# Altium footprint library CAPS.PcbLib: 166 footprints (part 8 of 11)
Each footprint in its own frame and in the unit in brackets; x right, y up, seen from the top. Pads: shape width x height; smd on the part's side, far side on the other; paste and mask are expansions set on the pad; w line width, h text height; cw(c..) or ccw(c..) is an arc to the next point about the centre after c.
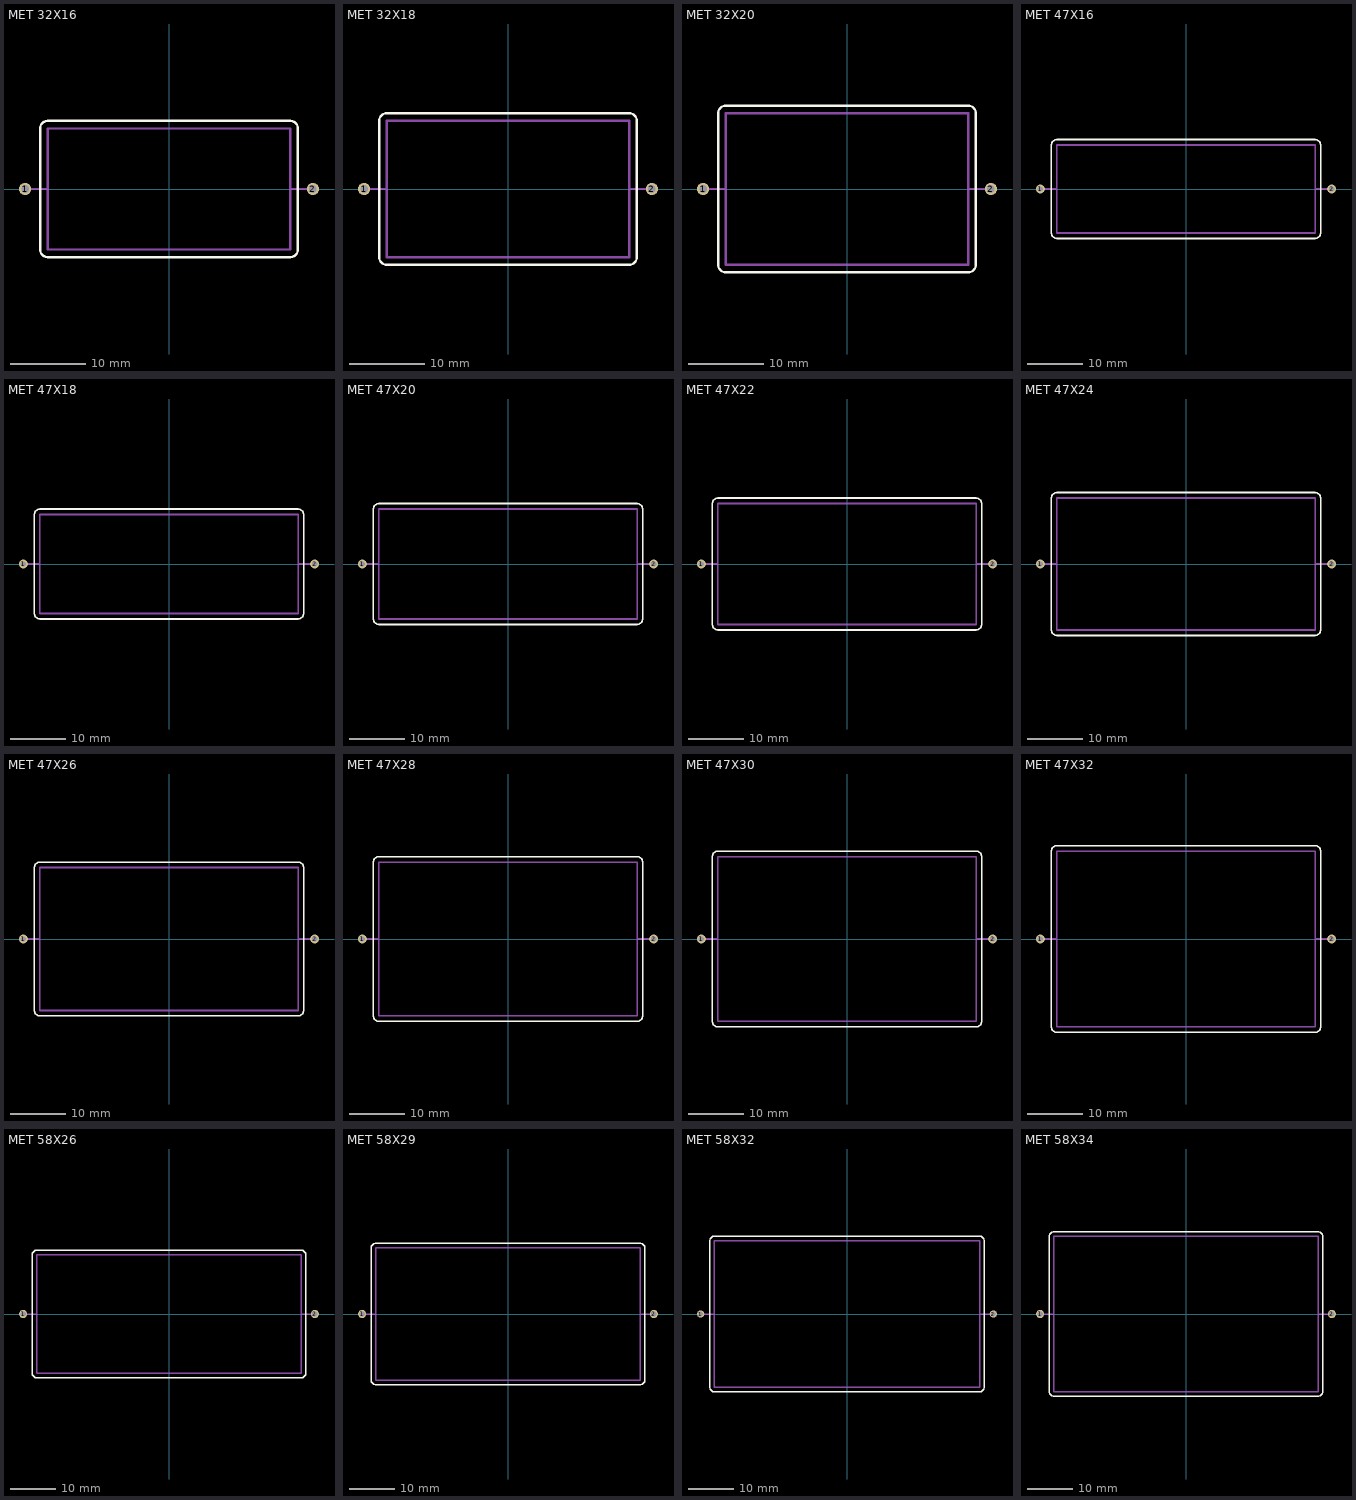
[diagram p7: the footprints below, top view; thin cyan lines are the x and y axes]

## MET 32X16 [mm]
pads (2):
  round 1.6 hole 1: 1(-19,0) 2(19,0)
Top Overlay:
  lines w0.3: -17,-8 ccw(c-16,-8) -16,-9 16,-9 ccw(c16,-8) 17,-8 17,8 ccw(c16,8) 16,9 -16,9 ccw(c-16,8) -17,8 -17,-8
Mechanical 1:
  lines w0.3: -19,0 -16,0 ; 16,0 19,0 ; -16,-8 -16,8 16,8 16,-8 -16,-8

## MET 32X18 [mm]
pads (2):
  round 1.6 hole 1: 1(-19,0) 2(19,0)
Top Overlay:
  lines w0.3: -17,-9 ccw(c-16,-9) -16,-10 16,-10 ccw(c16,-9) 17,-9 17,9 ccw(c16,9) 16,10 -16,10 ccw(c-16,9) -17,9 -17,-9
Mechanical 1:
  lines w0.3: -19,0 -16,0 ; 16,0 19,0 ; -16,-9 -16,9 16,9 16,-9 -16,-9

## MET 32X20 [mm]
pads (2):
  round 1.6 hole 1: 1(-19,0) 2(19,0)
Top Overlay:
  lines w0.3: -17,-10 ccw(c-16,-10) -16,-11 16,-11 ccw(c16,-10) 17,-10 17,10 ccw(c16,10) 16,11 -16,11 ccw(c-16,10) -17,10 -17,-10
Mechanical 1:
  lines w0.3: -19,0 -16,0 ; 16,0 19,0 ; -16,-10 16,-10 16,10 -16,10 -16,-10

## MET 47X16 [mm]
pads (2):
  round 1.6 hole 1: 1(-26.5,0) 2(26.5,0)
Top Overlay:
  lines w0.3: -24.5,-8 ccw(c-23.5,-8) -23.5,-9 23.5,-9 ccw(c23.5,-8) 24.5,-8 24.5,8 ccw(c23.5,8) 23.5,9 -23.5,9 ccw(c-23.5,8) -24.5,8 -24.5,-8
Mechanical 1:
  lines w0.3: -26.5,0 -23.5,0 ; 23.5,0 26.5,0 ; -23.5,-8 23.5,-8 23.5,8 -23.5,8 -23.5,-8

## MET 47X18 [mm]
pads (2):
  round 1.6 hole 1: 1(-26.5,0) 2(26.5,0)
Top Overlay:
  lines w0.3: -24.5,-9 ccw(c-23.5,-9) -23.5,-10 23.5,-10 ccw(c23.5,-9) 24.5,-9 24.5,9 ccw(c23.5,9) 23.5,10 -23.5,10 ccw(c-23.5,9) -24.5,9 -24.5,-9
Mechanical 1:
  lines w0.3: -26.5,0 -23.5,0 ; 23.5,0 26.5,0 ; -23.5,-9 23.5,-9 23.5,9 -23.5,9 -23.5,-9

## MET 47X20 [mm]
pads (2):
  round 1.6 hole 1: 1(-26.5,0) 2(26.5,0)
Top Overlay:
  lines w0.3: -24.5,-10 ccw(c-23.5,-10) -23.5,-11 23.5,-11 ccw(c23.5,-10) 24.5,-10 24.5,10 ccw(c23.5,10) 23.5,11 -23.5,11 ccw(c-23.5,10) -24.5,10 -24.5,-10
Mechanical 1:
  lines w0.3: -26.5,0 -23.5,0 ; 23.5,0 26.5,0 ; -23.5,-10 23.5,-10 23.5,10 -23.5,10 -23.5,-10

## MET 47X22 [mm]
pads (2):
  round 1.6 hole 1: 1(-26.5,0) 2(26.5,0)
Top Overlay:
  lines w0.3: -24.5,-11 ccw(c-23.5,-11) -23.5,-12 23.5,-12 ccw(c23.5,-11) 24.5,-11 24.5,11 ccw(c23.5,11) 23.5,12 -23.5,12 ccw(c-23.5,11) -24.5,11 -24.5,-11
Mechanical 1:
  lines w0.3: -26.5,0 -23.5,0 ; 23.5,0 26.5,0 ; -23.5,-11 23.5,-11 23.5,11 -23.5,11 -23.5,-11

## MET 47X24 [mm]
pads (2):
  round 1.6 hole 1: 1(-26.5,0) 2(26.5,0)
Top Overlay:
  lines w0.3: -24.5,-12 ccw(c-23.5,-12) -23.5,-13 23.5,-13 ccw(c23.5,-12) 24.5,-12 24.5,12 ccw(c23.5,12) 23.5,13 -23.5,13 ccw(c-23.5,12) -24.5,12 -24.5,-12
Mechanical 1:
  lines w0.3: -26.5,0 -23.5,0 ; 23.5,0 26.5,0 ; -23.5,-12 23.5,-12 23.5,12 -23.5,12 -23.5,-12

## MET 47X26 [mm]
pads (2):
  round 1.6 hole 1: 1(-26.5,0) 2(26.5,0)
Top Overlay:
  lines w0.3: -24.5,-13 ccw(c-23.5,-13) -23.5,-14 23.5,-14 ccw(c23.5,-13) 24.5,-13 24.5,13 ccw(c23.5,13) 23.5,14 -23.5,14 ccw(c-23.5,13) -24.5,13 -24.5,-13
Mechanical 1:
  lines w0.3: -26.5,0 -23.5,0 ; 23.5,0 26.5,0 ; -23.5,-13 23.5,-13 23.5,13 -23.5,13 -23.5,-13

## MET 47X28 [mm]
pads (2):
  round 1.6 hole 1: 1(-26.5,0) 2(26.5,0)
Top Overlay:
  lines w0.3: -24.5,-14 ccw(c-23.5,-14) -23.5,-15 23.5,-15 ccw(c23.5,-14) 24.5,-14 24.5,14 ccw(c23.5,14) 23.5,15 -23.5,15 ccw(c-23.5,14) -24.5,14 -24.5,-14
Mechanical 1:
  lines w0.3: -26.5,0 -23.5,0 ; 23.5,0 26.5,0 ; -23.5,-14 23.5,-14 23.5,14 -23.5,14 -23.5,-14

## MET 47X30 [mm]
pads (2):
  round 1.6 hole 1: 1(-26.5,0) 2(26.5,0)
Top Overlay:
  lines w0.3: -24.5,-15 ccw(c-23.5,-15) -23.5,-16 23.5,-16 ccw(c23.5,-15) 24.5,-15 24.5,15 ccw(c23.5,15) 23.5,16 -23.5,16 ccw(c-23.5,15) -24.5,15 -24.5,-15
Mechanical 1:
  lines w0.3: -26.5,0 -23.5,0 ; 23.5,0 26.5,0 ; -23.5,-15 -23.5,15 23.5,15 23.5,-15 -23.5,-15

## MET 47X32 [mm]
pads (2):
  round 1.6 hole 1: 1(-26.5,0) 2(26.5,0)
Top Overlay:
  lines w0.3: -24.5,-16 ccw(c-23.5,-16) -23.5,-17 23.5,-17 ccw(c23.5,-16) 24.5,-16 24.5,16 ccw(c23.5,16) 23.5,17 -23.5,17 ccw(c-23.5,16) -24.5,16 -24.5,-16
Mechanical 1:
  lines w0.3: -26.5,0 -23.5,0 ; 23.5,0 26.5,0 ; -23.5,-16 -23.5,16 23.5,16 23.5,-16 -23.5,-16

## MET 58X26 [mm]
pads (2):
  round 1.8 hole 1.2: 1(-32,0) 2(32,0)
Top Overlay:
  lines w0.3: -30,-13 ccw(c-29,-13) -29,-14 29,-14 ccw(c29,-13) 30,-13 30,13 ccw(c29,13) 29,14 -29,14 ccw(c-29,13) -30,13 -30,-13
Mechanical 1:
  lines w0.3: -32,0 -29,0 ; 29,0 32,0 ; -29,-13 29,-13 29,13 -29,13 -29,-13

## MET 58X29 [mm]
pads (2):
  round 1.8 hole 1.2: 1(-32,0) 2(32,0)
Top Overlay:
  lines w0.3: -30,-14.5 ccw(c-29,-14.5) -29,-15.5 29,-15.5 ccw(c29,-14.5) 30,-14.5 30,14.5 ccw(c29,14.5) 29,15.5 -29,15.5 ccw(c-29,14.5) -30,14.5 -30,-14.5
Mechanical 1:
  lines w0.3: -32,0 -29,0 ; 29,0 32,0 ; -29,-14.5 -29,14.5 29,14.5 29,-14.5 -29,-14.5

## MET 58X32 [mm]
pads (2):
  round 1.6 hole 1: 1(-32,0) 2(32,0)
Top Overlay:
  lines w0.3: -30,-16 ccw(c-29,-16) -29,-17 29,-17 ccw(c29,-16) 30,-16 30,16 ccw(c29,16) 29,17 -29,17 ccw(c-29,16) -30,16 -30,-16
Mechanical 1:
  lines w0.3: -32,0 -29,0 ; 29,0 32,0 ; -29,-16 29,-16 29,16 -29,16 -29,-16

## MET 58X34 [mm]
pads (2):
  round 1.8 hole 1.2: 1(-32,0) 2(32,0)
Top Overlay:
  lines w0.3: -30,-17 ccw(c-29,-17) -29,-18 29,-18 ccw(c29,-17) 30,-17 30,17 ccw(c29,17) 29,18 -29,18 ccw(c-29,17) -30,17 -30,-17
Mechanical 1:
  lines w0.3: -32,0 -29,0 ; 29,0 32,0 ; -29,-17 -29,17 29,17 29,-17 -29,-17